# EAGLE library part LM3478MM (library _RoweTel)
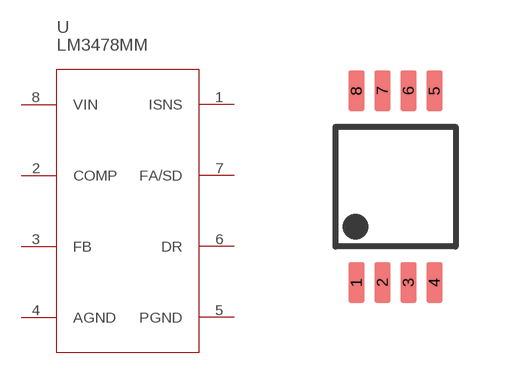
[diagram p27: symbol with the pads of LM3478; footprint LM3478]

Designator prefix U

## LM3478MM  [LM3478]
1  ISNS
2  COMP
3  FB
4  AGND
5  PGND
6  DR
7  FA/SD
8  VIN

## Footprint LM3478 (pad centres in mm)
smd 0.41 x 1.02: 1 -0.975,-2.4; 2 -0.325,-2.4; 3 0.325,-2.4; 4 0.975,-2.4; 5 0.975,2.4; 6 0.325,2.4; 7 -0.325,2.4; 8 -0.975,2.4